# EAGLE library part HEADER-6 (library homemade-hardware)
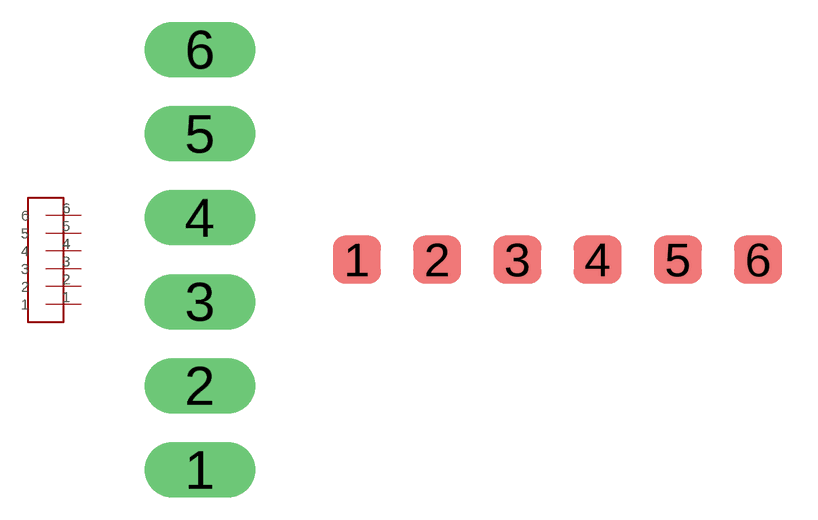
[diagram p1: symbol with the pads of HEADER-6; footprints HEADER-6, TESTPOINT-6]

Designator prefix -

## HEADER-6  [HEADER-6]
1  1
2  2
3  3
4  4
5  5
6  6

## HEADER-6-TESTPOINT  [TESTPOINT-6]
Pads as for HEADER-6

## Footprint HEADER-6 (pad centres in mm)
drill 1.016 pad 1.676 long: 1 0,0; 2 0,2.54; 3 0,5.08; 4 0,7.62; 5 0,10.16; 6 0,12.7

## Footprint TESTPOINT-6 (pad centres in mm)
smd 1.524 x 1.524: 1 0,0; 2 2.54,0; 3 5.08,0; 4 7.62,0; 5 10.16,0; 6 12.7,0